# Altium footprint library CC2540.PcbLib: 1 footprints
Each footprint in its own frame and in the unit in brackets; x right, y up, seen from the top. Pads: shape width x height; smd on the part's side, far side on the other; paste and mask are expansions set on the pad; w line width, h text height; cw(c..) or ccw(c..) is an arc to the next point about the centre after c.
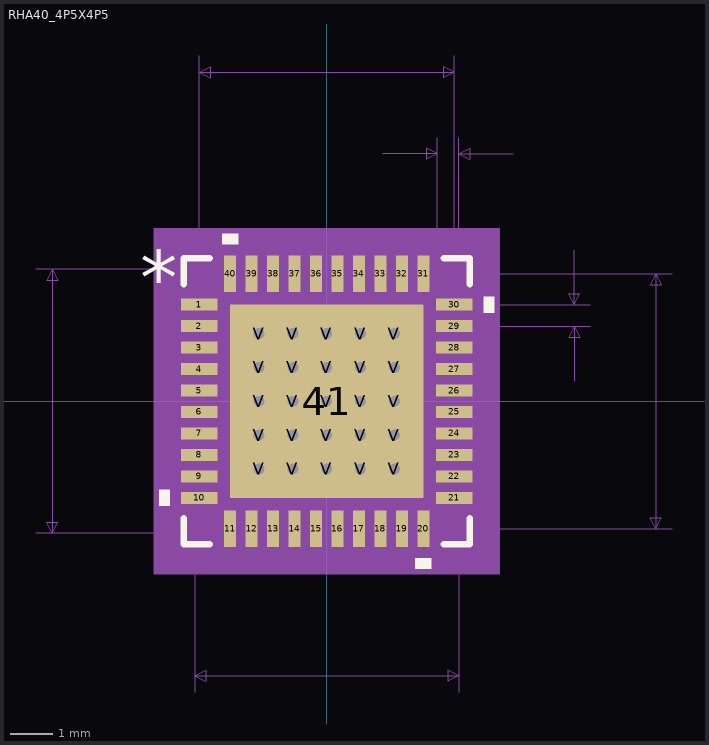
[diagram p0: the footprint, top view; thin cyan lines are the x and y axes]

## RHA40_4P5X4P5 [mm]
pads (66):
  rect 0.85x0.28 smd paste-0.14: 1(-2.975,2.25) 2(-2.975,1.75) 3(-2.975,1.25) 4(-2.975,0.75) 5(-2.975,0.25) 6(-2.975,-0.25) 7(-2.975,-0.75) 8(-2.975,-1.25) 9(-2.975,-1.75) 10(-2.975,-2.25) 21(2.975,-2.25) 22(2.975,-1.75) 23(2.975,-1.25) 24(2.975,-0.75) 25(2.975,-0.25) 26(2.975,0.25) 27(2.975,0.75) 28(2.975,1.25) 29(2.975,1.75) 30(2.975,2.25)
  rect 0.28x0.85 smd paste-0.14: 11(-2.251,-2.975) 12(-1.75,-2.975) 13(-1.25,-2.975) 14(-0.75,-2.975) 15(-0.25,-2.975) 16(0.25,-2.975) 17(0.75,-2.975) 18(1.25,-2.975) 19(1.75,-2.975) 20(2.251,-2.975) 31(2.251,2.975) 32(1.75,2.975) 33(1.25,2.975) 34(0.75,2.975) 35(0.25,2.975) 36(-0.25,2.975) 37(-0.75,2.975) 38(-1.25,2.975) 39(-1.75,2.975) 40(-2.251,2.975)
  rect 4.5x4.5 smd paste-2.237 mask-2.235: 41(0,0)
  round 0.508 hole 0.254: V(-1.575,-1.575) V(-1.575,-0.787) V(-1.575,0) V(-1.575,0.787) V(-1.575,1.575) V(-0.787,-1.575) V(-0.787,-0.787) V(-0.787,0) V(-0.787,0.787) V(-0.787,1.575) V(0,-1.575) V(0,-0.787) V(0,0) V(0,0.787) V(0,1.575) V(0.787,-1.575) V(0.787,-0.787) V(0.787,0) V(0.787,0.787) V(0.787,1.575) V(1.575,-1.575) V(1.575,-0.787) V(1.575,0) V(1.575,0.787) V(1.575,1.575)
Top Overlay:
  region: -3.654,-2.06 -3.908,-2.06 -3.908,-2.441 -3.654,-2.441
  region: 2.441,-3.654 2.06,-3.654 2.06,-3.908 2.441,-3.908
  region: 3.654,2.441 3.908,2.441 3.908,2.06 3.654,2.06
  region: -2.06,3.654 -2.441,3.654 -2.441,3.908 -2.06,3.908
  lines w0.152: -3.329,-2.723 -3.329,-3.329 -2.723,-3.329 ; -3.329,2.723 -3.329,3.329 -2.723,3.329 ; 2.723,-3.329 3.329,-3.329 3.329,-2.723 ; 2.723,3.329 3.329,3.329 3.329,2.723
  text "*" at -4.353,2.246 h1.27
Top Paste:
  drawing of 76 lines, arcs and shapes, not listed
Top Solder:
  drawing of 52 lines, arcs and shapes, not listed
Mechanical 5:
  region: 4.035,-4.035 -4.035,-4.035 -4.035,4.035 4.035,4.035
Mechanical 7:
  lines w0.025: -6.781,-3.075 3.075,-3.075 ; -6.781,3.075 3.075,3.075 3.075,-6.781 ; -3.075,-6.781 -3.075,3.075 ; -2.975,2.25 -2.975,8.051 ; 1.305,5.765 2.575,5.765 ; 2.25,-2.975 8.051,-2.975 ; 2.25,2.975 8.051,2.975 ; 2.575,2.25 2.575,6.146 ; 2.975,1.75 6.146,1.75 ; 2.975,8.051 2.975,2.25 6.146,2.25 ; 3.075,2.25 3.075,6.146 ; 4.345,5.765 3.075,5.765 ; 5.765,0.48 5.765,1.75 ; 5.765,3.52 5.765,2.25 ; -6.4,-3.075 -6.4,3.075 ; -6.4,-3.075 -6.527,-2.821 -6.273,-2.821 -6.4,-3.075 ; -6.4,3.075 -6.527,2.821 -6.273,2.821 -6.4,3.075 ; -3.075,-6.4 3.075,-6.4 ; -3.075,-6.4 -2.821,-6.273 -2.821,-6.527 -3.075,-6.4 ; -2.975,7.67 2.975,7.67 ; -2.975,7.67 -2.721,7.797 -2.721,7.543 -2.975,7.67 ; 2.575,5.765 2.321,5.892 2.321,5.638 2.575,5.765 ; 2.975,7.67 2.721,7.797 2.721,7.543 2.975,7.67 ; 3.075,-6.4 2.821,-6.273 2.821,-6.527 3.075,-6.4 ; 3.075,5.765 3.329,5.892 3.329,5.638 3.075,5.765 ; 5.765,1.75 5.638,1.496 5.892,1.496 5.765,1.75 ; 5.765,2.25 5.638,2.504 5.892,2.504 5.765,2.25 ; 7.67,-2.975 7.67,2.975 ; 7.67,-2.975 7.543,-2.721 7.797,-2.721 7.67,-2.975 ; 7.67,2.975 7.543,2.721 7.797,2.721 7.67,2.975
  text "Default Padstyle: RX11p02Y33p46D0T" at -10.795,-9.575 h1.27
  text "Alt 1 Padstyle: OX60Y90D30P" at -8.572,-12.115 h1.27
  text "Alt 2 Padstyle: OX90Y60D30P" at -8.572,-14.655 h1.27
  text "1.968504E-02in/.5mm" at 6.273,1.683 h0.64
  text "1.968504E-02in/.5mm" at -0.191,6.273 h0.64
  text ".234252in/5.95mm" at -2.54,8.178 h0.64
  text ".234252in/5.95mm" at 8.178,-0.318 h0.64
  text ".242126in/6.15mm" at -11.988,-0.318 h0.64
  text ".242126in/6.15mm" at -2.54,-7.543 h0.64
Mechanical 13:
  drawing of 165 lines, arcs and shapes, not listed
  text "*" at -4.353,2.246 h1.27
Mechanical 15:
  region: 3.654,-3.654 -3.654,-3.654 -3.654,3.654 3.654,3.654
  lines w0.152: -3.654,-3.654 -3.654,3.654 3.654,3.654 3.654,-3.654 -3.654,-3.654
3D body: height 0.25, standoff 0, extent 0,0 0.254,0.254